# EAGLE library part 87264-22 (library con-molex-milli-grid)
RECEPTACAL
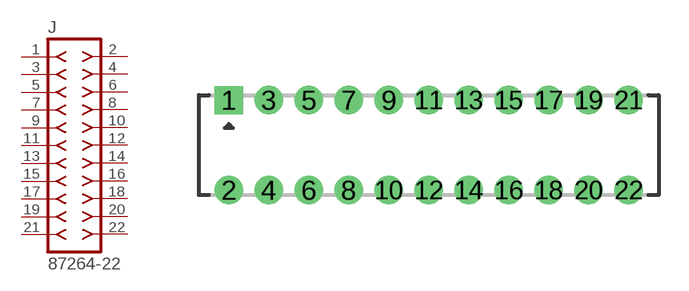
[diagram p212: symbol with the pads of 87264-22; footprint 87264-22]

Designator prefix J

## 87264-22  [87264-22]
1  1  pas
2  2  pas
3  3  pas
4  4  pas
5  5  pas
6  6  pas
7  7  pas
8  8  pas
9  9  pas
10  10  pas
11  11  pas
12  12  pas
13  13  pas
14  14  pas
15  15  pas
16  16  pas
17  17  pas
18  18  pas
19  19  pas
20  20  pas
21  21  pas
22  22  pas

## Footprint 87264-22 (pad centres in mm)
RECEPTACAL Dual Row, Side Entry
drill 0.914 square: 1 -10,2.25
drill 0.914: 2 -10,-2.25; 3 -8,2.25; 4 -8,-2.25; 5 -6,2.25; 6 -6,-2.25; 7 -4,2.25; 8 -4,-2.25; 9 -2,2.25; 10 -2,-2.25; 11 0,2.25; 12 0,-2.25; 13 2,2.25; 14 2,-2.25; 15 4,2.25; 16 4,-2.25; 17 6,2.25; 18 6,-2.25; 19 8,2.25; 20 8,-2.25; 21 10,2.25; 22 10,-2.25